# Altium schematic symbol library Schlib1.SchLib: 5 symbols
Pins are listed as number, name and electrical type; pins without a type are passive.

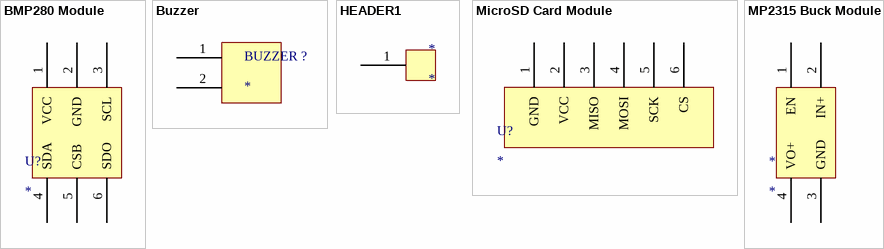
[diagram p0: symbols BMP280 Module to MP2315 Buck Module]

## BMP280 Module
designator U?
footprint BMP280 Module
pins: 1 VCC, 2 GND, 3 SCL, 4 SDA, 5 CSB, 6 SDO

## Buzzer
designator BUZZER ?
footprint BUZZER
pins: 1, 2

## HEADER1
designator *
footprint HEADER1
pins: 1

## MicroSD Card Module
designator U?
footprint MicroSD Card Module (MicroSD Card Module REF. 4MD36)
pins: 1 GND, 2 VCC, 3 MISO, 4 MOSI, 5 SCK, 6 CS

## MP2315 Buck Module
designator *
footprint MP2315 Buck Module
pins: 1 EN, 2 IN+, 3 GND, 4 VO+